# EAGLE library part ADG732 (library tdcs)
The ADG732 is a monolithic CMOS 32 channel analog multiplexes. The ADG732 switches one of thirty-two inputs (S1-S32) to a common output, D, as determined by the 5-bit binary address lines A0, A1, A2, A3 and A4. The ADG726 switches one of sixteen inputs as determined by the four bit binary address lines, A0, A1, A2 and A3. datasheet <http://www.analog.com/static/imported-files/data_sheets/ADG726_732.pdf>
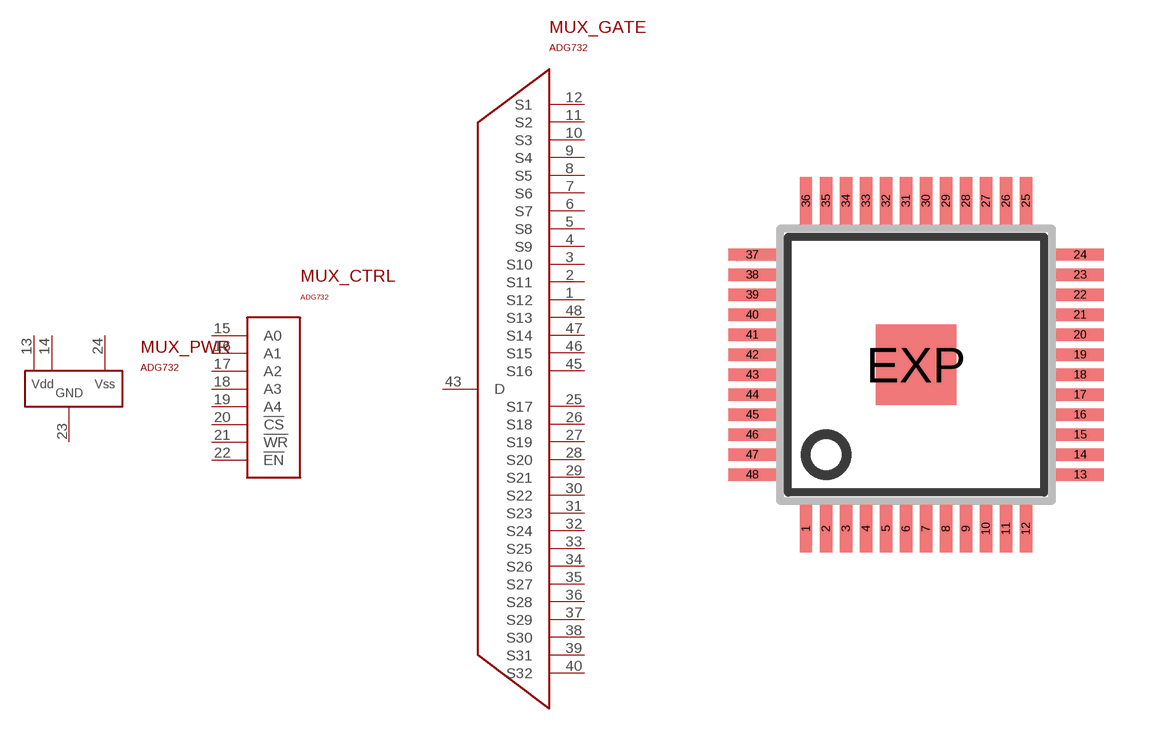
[diagram p7: symbol with the pads of QFP-7X7-48; footprint QFP-7X7-48]

Designator prefix MUX; gates _PWR=ADG732_PWR _CTRL=ADG732_LOGIC _GATE=ADG732_BANK

## ADG732BSU  [QFP-7X7-48]
1  _GATE:S12
2  _GATE:S11
3  _GATE:S10
4  _GATE:S9
5  _GATE:S8
6  _GATE:S7
7  _GATE:S6
8  _GATE:S5
9  _GATE:S4
10  _GATE:S3
11  _GATE:S2
12  _GATE:S1
13  _PWR:VDD
14  _PWR:VDD
15  _CTRL:A0
16  _CTRL:A1
17  _CTRL:A2
18  _CTRL:A3
19  _CTRL:A4
20  _CTRL:!CS!
21  _CTRL:!WR!
22  _CTRL:!EN!
23  _PWR:GND
24  _PWR:VSS
25  _GATE:S17
26  _GATE:S18
27  _GATE:S19
28  _GATE:S20
29  _GATE:S21
30  _GATE:S22
31  _GATE:S23
32  _GATE:S24
33  _GATE:S25
34  _GATE:S26
35  _GATE:S27
36  _GATE:S28
37  _GATE:S29
38  _GATE:S30
39  _GATE:S31
40  _GATE:S32
43  _GATE:D
45  _GATE:S16
46  _GATE:S15
47  _GATE:S14
48  _GATE:S13

## Footprint QFP-7X7-48 (pad centres in mm)
TQFP48 7x7 Thin Plastic Quad Flat Package, Exposed Pad, TQFP/EP Source: www.analog.com/UploadedFiles/Data_Sheets/33830397585263AD9859_0.pdf
smd 0.3 x 1.2: 1 -2.75,-4.1; 2 -2.25,-4.1; 3 -1.75,-4.1; 4 -1.25,-4.1; 5 -0.75,-4.1; 6 -0.25,-4.1; 7 0.25,-4.1; 8 0.75,-4.1; 9 1.25,-4.1; 10 1.75,-4.1; 11 2.25,-4.1; 12 2.75,-4.1; 25 2.75,4.1; 26 2.25,4.1; 27 1.75,4.1; 28 1.25,4.1; 29 0.75,4.1; 30 0.25,4.1; 31 -0.25,4.1; 32 -0.75,4.1; 33 -1.25,4.1; 34 -1.75,4.1; 35 -2.25,4.1; 36 -2.75,4.1
smd 1.2 x 0.3: 13 4.1,-2.75; 14 4.1,-2.25; 15 4.1,-1.75; 16 4.1,-1.25; 17 4.1,-0.75; 18 4.1,-0.25; 19 4.1,0.25; 20 4.1,0.75; 21 4.1,1.25; 22 4.1,1.75; 23 4.1,2.25; 24 4.1,2.75; 37 -4.1,2.75; 38 -4.1,2.25; 39 -4.1,1.75; 40 -4.1,1.25; 41 -4.1,0.75; 42 -4.1,0.25; 43 -4.1,-0.25; 44 -4.1,-0.75; 45 -4.1,-1.25; 46 -4.1,-1.75; 47 -4.1,-2.25; 48 -4.1,-2.75
smd 2 x 2: EXP 0,0